# EAGLE library part CON-HARTING-ML_ML40 (library iMX233-OLINUXINO-MINI_Rev_C)
HARTING
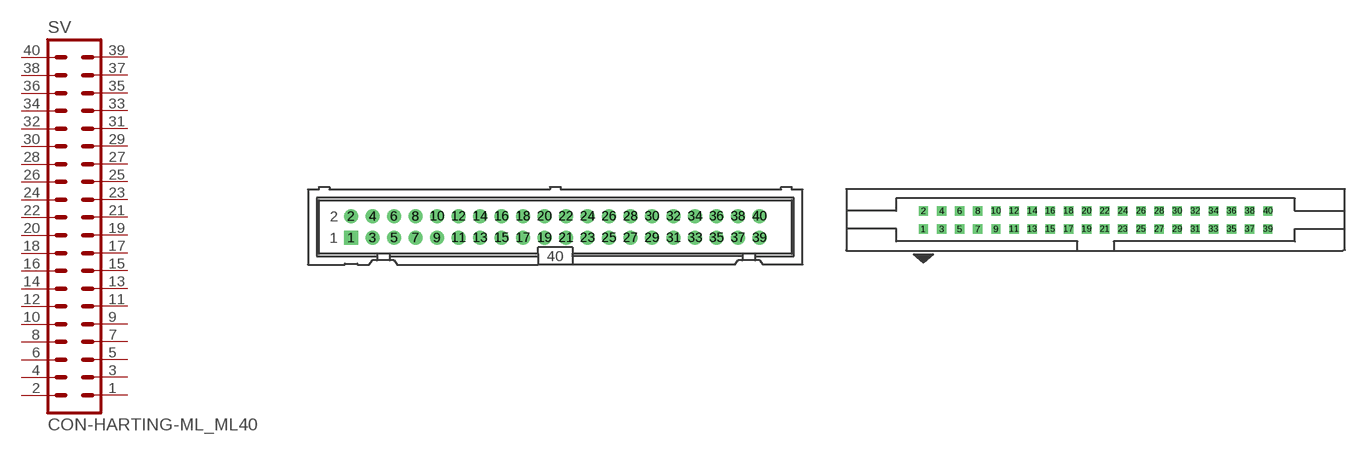
[diagram p10: symbol with the pads of CON-HARTING-ML_ML40; footprints CON-HARTING-ML_ML40, CON-HARTING-ML_3M_40]

Designator prefix SV

## CON-HARTING-ML_ML40  [CON-HARTING-ML_ML40]
1  1  pas
2  2  pas
3  3  pas
4  4  pas
5  5  pas
6  6  pas
7  7  pas
8  8  pas
9  9  pas
10  10  pas
11  11  pas
12  12  pas
13  13  pas
14  14  pas
15  15  pas
16  16  pas
17  17  pas
18  18  pas
19  19  pas
20  20  pas
21  21  pas
22  22  pas
23  23  pas
24  24  pas
25  25  pas
26  26  pas
27  27  pas
28  28  pas
29  29  pas
30  30  pas
31  31  pas
32  32  pas
33  33  pas
34  34  pas
35  35  pas
36  36  pas
37  37  pas
38  38  pas
39  39  pas
40  40  pas

## CON-HARTING-ML_ML403M  [CON-HARTING-ML_3M_40]
Pads as for CON-HARTING-ML_ML40

## CON-HARTING-ML_ML403ML  [CON-HARTING-ML_3M_40L]
Pads as for CON-HARTING-ML_ML40

## CON-HARTING-ML_ML40F50  [CON-HARTING-ML_ML40_50MILS_F]
Pads as for CON-HARTING-ML_ML40

## CON-HARTING-ML_ML40L  [CON-HARTING-ML_ML40L]
Pads as for CON-HARTING-ML_ML40

## CON-HARTING-ML_ML40M50  [CON-HARTING-ML_ML40_50MILS_M]
Pads as for CON-HARTING-ML_ML40

## CON-HARTING-ML_ML40ML40_FEMALE  [CON-HARTING-ML_ML40-FEMALE]
Pads as for CON-HARTING-ML_ML40

## CON-HARTING-ML_ML40ML40_PADS  [CON-HARTING-ML_ML40_PADS]
Pads as for CON-HARTING-ML_ML40

## CON-HARTING-ML_ML40PN2X20  [CON-HARTING-ML_ML40-FEMALE(PN2X20)]
Pads as for CON-HARTING-ML_ML40

## CON-HARTING-ML_ML40R  [CON-HARTING-ML_BH40R]
Pads as for CON-HARTING-ML_ML40

## CON-HARTING-ML_ML40THIN_PADS  [CON-HARTING-ML_ML40_50MIL_M_THIN_PADS]
Pads as for CON-HARTING-ML_ML40

## Footprint CON-HARTING-ML_ML40 (pad centres in mm)
HARTING
drill 1.016 pad 1.676 square: 1 -24.13,-1.27
drill 1.016 pad 1.676: 2 -24.13,1.27; 3 -21.59,-1.27; 4 -21.59,1.27; 5 -19.05,-1.27; 6 -19.05,1.27; 7 -16.51,-1.27; 8 -16.51,1.27; 9 -13.97,-1.27; 10 -13.97,1.27; 11 -11.43,-1.27; 12 -11.43,1.27; 13 -8.89,-1.27; 14 -8.89,1.27; 15 -6.35,-1.27; 16 -6.35,1.27; 17 -3.81,-1.27; 18 -3.81,1.27; 19 -1.27,-1.27; 20 -1.27,1.27; 21 1.27,-1.27; 22 1.27,1.27; 23 3.81,-1.27; 24 3.81,1.27; 25 6.35,-1.27; 26 6.35,1.27; 27 8.89,-1.27; 28 8.89,1.27; 29 11.43,-1.27; 30 11.43,1.27; 31 13.97,-1.27; 32 13.97,1.27; 33 16.51,-1.27; 34 16.51,1.27; 35 19.05,-1.27; 36 19.05,1.27; 37 21.59,-1.27; 38 21.59,1.27; 39 24.13,-1.27; 40 24.13,1.27

## Footprint CON-HARTING-ML_3M_40 (pad centres in mm)
3M
drill 0.813 square: 1 -24.13,-1.27; 2 -24.13,1.27; 3 -21.59,-1.27; 4 -21.59,1.27; 5 -19.05,-1.27; 6 -19.05,1.27; 7 -16.51,-1.27; 8 -16.51,1.27; 9 -13.97,-1.27; 10 -13.97,1.27; 11 -11.43,-1.27; 12 -11.43,1.27; 13 -8.89,-1.27; 14 -8.89,1.27; 15 -6.35,-1.27; 16 -6.35,1.27; 17 -3.81,-1.27; 18 -3.81,1.27; 19 -1.27,-1.27; 20 -1.27,1.27; 21 1.27,-1.27; 22 1.27,1.27; 23 3.81,-1.27; 24 3.81,1.27; 25 6.35,-1.27; 26 6.35,1.27; 27 8.89,-1.27; 28 8.89,1.27; 29 11.43,-1.27; 30 11.43,1.27; 31 13.97,-1.27; 32 13.97,1.27; 33 16.51,-1.27; 34 16.51,1.27; 35 19.05,-1.27; 36 19.05,1.27; 37 21.59,-1.27; 38 21.59,1.27; 39 24.13,-1.27; 40 24.13,1.27

## Footprint CON-HARTING-ML_3M_40L (pad centres in mm)
3M
drill 0.813 square: 1 -24.13,-5.08; 2 -24.13,-2.54; 3 -21.59,-5.08; 4 -21.59,-2.54; 5 -19.05,-5.08; 6 -19.05,-2.54; 7 -16.51,-5.08; 8 -16.51,-2.54; 9 -13.97,-5.08; 10 -13.97,-2.54; 11 -11.43,-5.08; 12 -11.43,-2.54; 13 -8.89,-5.08; 14 -8.89,-2.54; 15 -6.35,-5.08; 16 -6.35,-2.54; 17 -3.81,-5.08; 18 -3.81,-2.54; 19 -1.27,-5.08; 20 -1.27,-2.54; 21 1.27,-5.08; 22 1.27,-2.54; 23 3.81,-5.08; 24 3.81,-2.54; 25 6.35,-5.08; 26 6.35,-2.54; 27 8.89,-5.08; 28 8.89,-2.54; 29 11.43,-5.08; 30 11.43,-2.54; 31 13.97,-5.08; 32 13.97,-2.54; 33 16.51,-5.08; 34 16.51,-2.54; 35 19.05,-5.08; 36 19.05,-2.54; 37 21.59,-5.08; 38 21.59,-2.54; 39 24.13,-5.08; 40 24.13,-2.54
hole 2.54 at -30.048,-3.277
hole 2.54 at 30.048,-3.277

## Footprint CON-HARTING-ML_ML40_50MILS_F (pad centres in mm)
connector with 50 mils pich for Olimex's projects
smd 0.66 x 2.54: 1 -12.065,1.905; 2 -12.065,-1.905; 3 -10.795,1.905; 4 -10.795,-1.905; 5 -9.525,1.905; 6 -9.525,-1.905; 7 -8.255,1.905; 8 -8.255,-1.905; 9 -6.985,1.905; 10 -6.985,-1.905; 11 -5.715,1.905; 12 -5.715,-1.905; 13 -4.445,1.905; 14 -4.445,-1.905; 15 -3.175,1.905; 16 -3.175,-1.905; 17 -1.905,1.905; 18 -1.905,-1.905; 19 -0.635,1.905; 20 -0.635,-1.905; 21 0.635,1.905; 22 0.635,-1.905; 23 1.905,1.905; 24 1.905,-1.905; 25 3.175,1.905; 26 3.175,-1.905; 27 4.445,1.905; 28 4.445,-1.905; 29 5.715,1.905; 30 5.715,-1.905; 31 6.985,1.905; 32 6.985,-1.905; 33 8.255,1.905; 34 8.255,-1.905; 35 9.525,1.905; 36 9.525,-1.905; 37 10.795,1.905; 38 10.795,-1.905; 39 12.065,1.905; 40 12.065,-1.905

## Footprint CON-HARTING-ML_ML40L (pad centres in mm)
HARTING
drill 1 square: 1 -24.13,-1.27
drill 1: 2 -24.13,1.27; 3 -21.59,-1.27; 4 -21.59,1.27; 5 -19.05,-1.27; 6 -19.05,1.27; 7 -16.51,-1.27; 8 -16.51,1.27; 9 -13.97,-1.27; 10 -13.97,1.27; 11 -11.43,-1.27; 12 -11.43,1.27; 13 -8.89,-1.27; 14 -8.89,1.27; 15 -6.35,-1.27; 16 -6.35,1.27; 17 -3.81,-1.27; 18 -3.81,1.27; 19 -1.27,-1.27; 20 -1.27,1.27; 21 1.27,-1.27; 22 1.27,1.27; 23 3.81,-1.27; 24 3.81,1.27; 25 6.35,-1.27; 26 6.35,1.27; 27 8.89,-1.27; 28 8.89,1.27; 29 11.43,-1.27; 30 11.43,1.27; 31 13.97,-1.27; 32 13.97,1.27; 33 16.51,-1.27; 34 16.51,1.27; 35 19.05,-1.27; 36 19.05,1.27; 37 21.59,-1.27; 38 21.59,1.27; 39 24.13,-1.27; 40 24.13,1.27

## Footprint CON-HARTING-ML_ML40_50MILS_M (pad centres in mm)
connector with 50 mils pich for Olimex's projects
smd 0.66 x 2.794: 1 -12.065,-2.032; 2 -12.065,2.032; 3 -10.795,-2.032; 4 -10.795,2.032; 5 -9.525,-2.032; 6 -9.525,2.032; 7 -8.255,-2.032; 8 -8.255,2.032; 9 -6.985,-2.032; 10 -6.985,2.032; 11 -5.715,-2.032; 12 -5.715,2.032; 13 -4.445,-2.032; 14 -4.445,2.032; 15 -3.175,-2.032; 16 -3.175,2.032; 17 -1.905,-2.032; 18 -1.905,2.032; 19 -0.635,-2.032; 20 -0.635,2.032; 21 0.635,-2.032; 22 0.635,2.032; 23 1.905,-2.032; 24 1.905,2.032; 25 3.175,-2.032; 26 3.175,2.032; 27 4.445,-2.032; 28 4.445,2.032; 29 5.715,-2.032; 30 5.715,2.032; 31 6.985,-2.032; 32 6.985,2.032; 33 8.255,-2.032; 34 8.255,2.032; 35 9.525,-2.032; 36 9.525,2.032; 37 10.795,-2.032; 38 10.795,2.032; 39 12.065,-2.032; 40 12.065,2.032

## Footprint CON-HARTING-ML_ML40-FEMALE (pad centres in mm)
drill 1.016 pad 1.676 square: 1 -24.13,1.27
drill 1.016 pad 1.676: 2 -24.13,-1.27; 3 -21.59,1.27; 4 -21.59,-1.27; 5 -19.05,1.27; 6 -19.05,-1.27; 7 -16.51,1.27; 8 -16.51,-1.27; 9 -13.97,1.27; 10 -13.97,-1.27; 11 -11.43,1.27; 12 -11.43,-1.27; 13 -8.89,1.27; 14 -8.89,-1.27; 15 -6.35,1.27; 16 -6.35,-1.27; 17 -3.81,1.27; 18 -3.81,-1.27; 19 -1.27,1.27; 20 -1.27,-1.27; 21 1.27,1.27; 22 1.27,-1.27; 23 3.81,1.27; 24 3.81,-1.27; 25 6.35,1.27; 26 6.35,-1.27; 27 8.89,1.27; 28 8.89,-1.27; 29 11.43,1.27; 30 11.43,-1.27; 31 13.97,1.27; 32 13.97,-1.27; 33 16.51,1.27; 34 16.51,-1.27; 35 19.05,1.27; 36 19.05,-1.27; 37 21.59,1.27; 38 21.59,-1.27; 39 24.13,1.27; 40 24.13,-1.27

## Footprint CON-HARTING-ML_ML40_PADS (pad centres in mm)
smd 1.651 x 3.683: 1 -24.13,-3.404; 3 -21.59,-3.404; 5 -19.05,-3.404; 7 -16.51,-3.404; 9 -13.97,-3.404; 11 -11.43,-3.404; 13 -8.89,-3.404; 15 -6.35,-3.404; 17 -3.81,-3.404; 19 -1.27,-3.404; 21 1.27,-3.404; 23 3.81,-3.404; 25 6.35,-3.404; 27 8.89,-3.404; 29 11.43,-3.404; 31 13.97,-3.404; 33 16.51,-3.404; 35 19.05,-3.404; 37 21.59,-3.404; 39 24.13,-3.404
smd 1.651 x 3.683 bottom: 2 -24.13,-3.404; 4 -21.59,-3.404; 6 -19.05,-3.404; 8 -16.51,-3.404; 10 -13.97,-3.404; 12 -11.43,-3.404; 14 -8.89,-3.404; 16 -6.35,-3.404; 18 -3.81,-3.404; 20 -1.27,-3.404; 22 1.27,-3.404; 24 3.81,-3.404; 26 6.35,-3.404; 28 8.89,-3.404; 30 11.43,-3.404; 32 13.97,-3.404; 34 16.51,-3.404; 36 19.05,-3.404; 38 21.59,-3.404; 40 24.13,-3.404

## Footprint CON-HARTING-ML_ML40-FEMALE(PN2X20) (pad centres in mm)
drill 1.016 pad 1.676 square: 1 -24.13,1.27
drill 1.016 pad 1.676: 2 -24.13,-1.27; 3 -21.59,1.27; 4 -21.59,-1.27; 5 -19.05,1.27; 6 -19.05,-1.27; 7 -16.51,1.27; 8 -16.51,-1.27; 9 -13.97,1.27; 10 -13.97,-1.27; 11 -11.43,1.27; 12 -11.43,-1.27; 13 -8.89,1.27; 14 -8.89,-1.27; 15 -6.35,1.27; 16 -6.35,-1.27; 17 -3.81,1.27; 18 -3.81,-1.27; 19 -1.27,1.27; 20 -1.27,-1.27; 21 1.27,1.27; 22 1.27,-1.27; 23 3.81,1.27; 24 3.81,-1.27; 25 6.35,1.27; 26 6.35,-1.27; 27 8.89,1.27; 28 8.89,-1.27; 29 11.43,1.27; 30 11.43,-1.27; 31 13.97,1.27; 32 13.97,-1.27; 33 16.51,1.27; 34 16.51,-1.27; 35 19.05,1.27; 36 19.05,-1.27; 37 21.59,1.27; 38 21.59,-1.27; 39 24.13,1.27; 40 24.13,-1.27

## Footprint CON-HARTING-ML_BH40R (pad centres in mm)
HARTING , but silkscreen with 1mm protrusion, suitable for Olimex BH40R edited by Yassen
drill 1 square: 1 -24.13,-1.27
drill 1: 2 -24.13,1.27; 3 -21.59,-1.27; 4 -21.59,1.27; 5 -19.05,-1.27; 6 -19.05,1.27; 7 -16.51,-1.27; 8 -16.51,1.27; 9 -13.97,-1.27; 10 -13.97,1.27; 11 -11.43,-1.27; 12 -11.43,1.27; 13 -8.89,-1.27; 14 -8.89,1.27; 15 -6.35,-1.27; 16 -6.35,1.27; 17 -3.81,-1.27; 18 -3.81,1.27; 19 -1.27,-1.27; 20 -1.27,1.27; 21 1.27,-1.27; 22 1.27,1.27; 23 3.81,-1.27; 24 3.81,1.27; 25 6.35,-1.27; 26 6.35,1.27; 27 8.89,-1.27; 28 8.89,1.27; 29 11.43,-1.27; 30 11.43,1.27; 31 13.97,-1.27; 32 13.97,1.27; 33 16.51,-1.27; 34 16.51,1.27; 35 19.05,-1.27; 36 19.05,1.27; 37 21.59,-1.27; 38 21.59,1.27; 39 24.13,-1.27; 40 24.13,1.27

## Footprint CON-HARTING-ML_ML40_50MIL_M_THIN_PADS (pad centres in mm)
smd 0.508 x 2.794: 1 -12.065,-2.032; 2 -12.065,2.032; 3 -10.795,-2.032; 4 -10.795,2.032; 5 -9.525,-2.032; 6 -9.525,2.032; 7 -8.255,-2.032; 8 -8.255,2.032; 9 -6.985,-2.032; 10 -6.985,2.032; 11 -5.715,-2.032; 12 -5.715,2.032; 13 -4.445,-2.032; 14 -4.445,2.032; 15 -3.175,-2.032; 16 -3.175,2.032; 17 -1.905,-2.032; 18 -1.905,2.032; 19 -0.635,-2.032; 20 -0.635,2.032; 21 0.635,-2.032; 22 0.635,2.032; 23 1.905,-2.032; 24 1.905,2.032; 25 3.175,-2.032; 26 3.175,2.032; 27 4.445,-2.032; 28 4.445,2.032; 29 5.715,-2.032; 30 5.715,2.032; 31 6.985,-2.032; 32 6.985,2.032; 33 8.255,-2.032; 34 8.255,2.032; 35 9.525,-2.032; 36 9.525,2.032; 37 10.795,-2.032; 38 10.795,2.032; 39 12.065,-2.032; 40 12.065,2.032